# Altium schematic symbol library Diodes.SchLib: 26 symbols
Pins are listed as number, name and electrical type; pins without a type are passive.

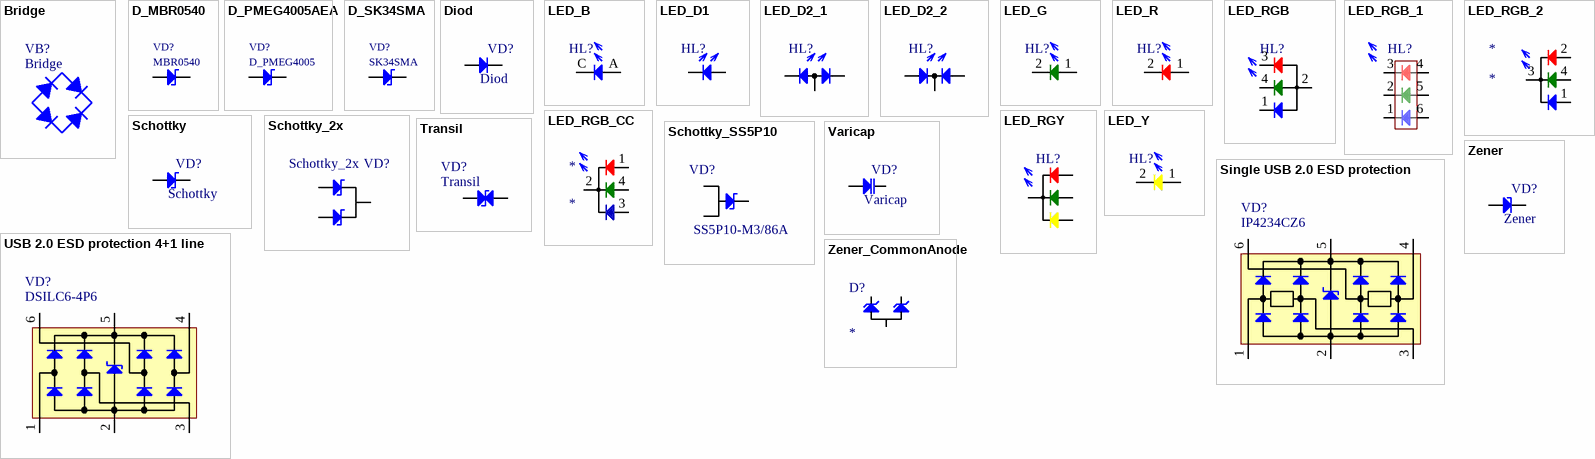
[diagram p0: symbols Bridge to Zener_CommonAnode]

## Bridge
designator VB?
Catalog: *; Catalog page: *; Price: *; Value: *
footprint MBSxx
pins: + K, - A, AC1 C, AC2 C

## D_MBR0540
designator VD?, comment MBR0540
Catalog: *; Catalog number: *; Value: MBR0540; Catalog page: *
footprint SOD-123 (Molded Diode, 2-Leads, Body 3,8x1,6mm, IPC Medium Density)
pins: 1 A, 2 C

## D_PMEG4005AEA
designator VD?, comment D_PMEG4005
DIODE SCHOTTKY; Catalog: Farnell; Catalog number: 8738025; Value: PMEG4005AEA; Catalog page: *; Price: 0.06
footprint SOD-323 (Molded Diode, 2-Leads, Body 1,7x1,3mm,)
pins: 1 A, 2 C

## D_SK34SMA
designator VD?, comment SK34SMA
Catalog: *; Catalog number: *; Catalog page: *; Value: SK34SMA
footprint D SMD DO-214AC SMA (Molded Diode, 2-Leads, Body 4,3x2,7mm)
pins: 1 A, 2 C

## Diod
designator VD?
Catalog: *; Catalog number: *; Value: *; Catalog page: *
pins: 1 A, 2 C

## LED_B
designator HL?  (value not drawn)
LED; Value: *; Catalog: *; Catalog number: *
footprint LED_SMD_Side_View_B (LED_SMD_Side_View_B 3.2x1.5)
pins: A, C

## LED_D1
designator HL?, comment LED  (value not drawn)
Value: *; Catalog: *; Catalog number: *
pins: 1, 2

## LED_D2_1
designator HL?, comment LED  (value not drawn)
Value: *; Catalog: *; Catalog number: *
pins: 14, 15, 16

## LED_D2_2
designator HL?, comment LED  (value not drawn)
Value: *; Catalog: *; Catalog number: *
pins: 14, 15, 16

## LED_G
designator HL?  (value not drawn)
LED; Value: *; Catalog: *; Catalog number: *
footprint LED SMD 0603 G (LED 2-Leads, Body 1,6x0,8mm, IPC Medium Density)
pins: 1, 2

## LED_R
designator HL?  (value not drawn)
LED; Value: *; Catalog: *; Catalog number: *
footprint LED SMD 0603 R (LED 2-Leads, Body 1,6x0,8mm, IPC Medium Density)
pins: 1, 2

## LED_RGB
designator HL?  (value not drawn)
LED; Value: *; Catalog: *; Catalog number: *
footprint HSMF-C113 / C115
pins: 1 B, 2 A, 3 R, 4 G

## LED_RGB_1
designator HL?, comment LED_RGB  (value not drawn)
LED; Value: *; Catalog: *; Catalog number: *
footprint RGB_1 (RGB_1_AVAGO)
pins: 1, 2, 3, 4, 5, 6

## LED_RGB_2
designator *
pins: 1 B, 2 R, 3 COM, 4 G

## LED_RGB_CC
designator *
pins: 1 R, 2 14, 3 Y, 4 G

## LED_RGY
designator HL?  (value not drawn)
LED; Value: *; Catalog: *; Catalog number: *
pins: 1 R, 2 14, 3 G, 4 Y

## LED_Y
designator HL?  (value not drawn)
LED; Value: *; Catalog: *; Catalog number: *
footprint LED SMD 0603 Y (LED 2-Leads, Body 1,6x0,8mm, IPC Medium Density)
pins: 1, 2

## Schottky
designator VD?
Catalog: *; Catalog number: *; Value: *; Catalog page: *
footprint SOD-123W
pins: 1 A, 2 C

## Schottky_2x
designator VD?
Schottky; Catalog: *; Catalog number: *; Value: *; Catalog page: *
footprint TO-263 -2 (D2PACK)
pins: 1 A, 3 A, 4 C

## Schottky_SS5P10
designator VD?  value SS5P10-M3/86A  (hidden comment: Schottky_SS5P10)
VISHAY GENERAL SEMICONDUCTOR  SS5P10-M3/86A  DIODE, SCHOTTKY, 5A, 100V, TO-277A-3; Catalog: Farnell; Catalog number: 2458575; Catalog page: *
footprint TO-277A (SMPC)
pins: 1 A, 2 A, K C

## Single USB 2.0 ESD protection
designator VD?, comment IP4234CZ6
Catalod: Farnell; Catalog number: IP4233CZ6; Catalog page: http://lv.farnell.com/jsp/search/browse.jsp?N=2020+204377&No=25&Ntk=gensearch&Ntt=ESD+protection&Ntx=mode+matchallpartial&locale=lv_LV&appliedparametrics=true&getResults=true&originalQueryURL=/jsp/search/browse.jsp%3FN%3D2020%2B204377%26Ntk%3Dgensearch%26Ntt%3DESD%2Bprotection%26Ntx%3Dmode%2Bmatchallpartial%26No%3D0%26getResults%3Dtrue%26appliedparametrics%3Dtrue%26locale%3Dlv_LV%26divisionLocale%3Dlv_LV%26catalogId%3D%26skipManufacturer%3Dfalse%26skipParametricAttributeId%3D%26prevNValues%3D2020%2B204377; Price: 0.282; Value: IP4234CZ6
footprint TSOP-6
footprint SOT886_XSON6
pins: 1, 2, 3, 4, 5, 6

## Transil
designator VD?
Catalog: *; Catalog number: *; Catalog page: *; Price: *
footprint SOD-323 (Molded Diode, 2-Leads, Body 1,7x1,3mm,)
footprint SOD-523
pins: 1 A, 2 C

## USB 2.0 ESD protection 4+1 line
designator VD?, comment DSILC6-4P6
footprint SOT-666
footprint SOT886_XSON6
pins: 1 IO1, 2, 3, 4, 5, 6

## Varicap
designator VD?
Catalog: *; Catalog number: *; Value: *; Catalog page: *
pins: 1 A, 2 C

## Zener
designator VD?
Catalog: *; Catalog number: *; Value: *; Catalog page: *
pins: 1 A, 2 C

## Zener_CommonAnode
designator D?, comment Zener, dual, common anode, SOT-23  (value not drawn)
Price 1: *; Price 100: *; Price 1000: *; Manufacturer: *; Part Number: *; Zener voltage: *
footprint SOT23-3-IPC (SOT23, 3-Leads, Body 2.9x1.3mm, Pitch 0.95mm, Lead Span 2.5mm, IPC Recommended)
pins: 1 K1, 2 K2, 3 A